# Altium footprint library ERA-2AEB6042X.PcbLib: 3 footprints
Each footprint in its own frame and in the unit in brackets; x right, y up, seen from the top. Pads: shape width x height; smd on the part's side, far side on the other; paste and mask are expansions set on the pad; w line width, h text height; cw(c..) or ccw(c..) is an arc to the next point about the centre after c.
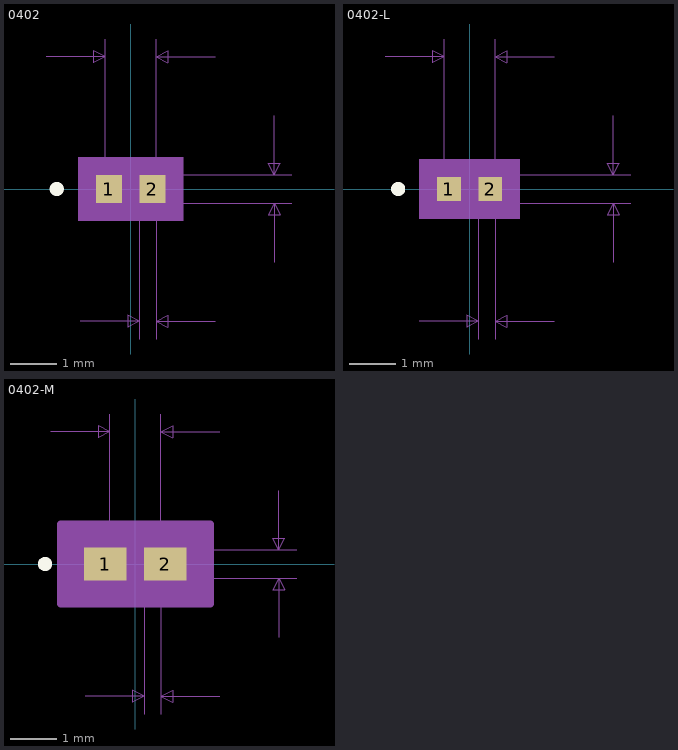
[diagram p0: the footprints below, top view; thin cyan lines are the x and y axes]

## 0402 [mil]
pads (2):
  rect 22x24 smd: 1(-18.5,0) 2(18.5,0)
Top Overlay:
  circle w6: c-62.5,0 r3
Mechanical 5:
  region: 44.5,-27 -44.5,-27 -44.5,27 44.5,27
Mechanical 7:
  lines w1: -71.5,112 -21.5,112 ; -42.5,-112 7.5,-112 ; -21.5,0 -21.5,127 ; 0,-12 136.5,-12 ; 0,12 136.5,12 ; 7.5,-127 7.5,0 ; 21.5,-127 21.5,0 21.5,127 ; 71.5,-112 21.5,-112 ; 71.5,112 21.5,112 ; 121.5,-62 121.5,-12 ; 121.5,62 121.5,12 ; -21.5,112 -31.5,117 -31.5,107 -21.5,112 ; 7.5,-112 -2.5,-107 -2.5,-117 7.5,-112 ; 21.5,-112 31.5,-107 31.5,-117 21.5,-112 ; 21.5,112 31.5,117 31.5,107 21.5,112 ; 121.5,-12 116.5,-22 126.5,-22 121.5,-12 ; 121.5,12 116.5,22 126.5,22 121.5,12
  text "Default Padstyle: RX22Y24D0T" at -350,-282 h50
  text "Alternate 1 Padstyle: OX60Y90D30P" at -412.5,-382 h50
  text "Alternate 2 Padstyle: OX90Y60D30P" at -412.5,-482 h50
  text "0.024in/0.61mm" at 141.5,-12.5 h25
  text "0.043in/1.092mm" at -93.75,132 h25
  text "0.014in/0.356mm" at -79.25,-157 h25
Mechanical 13:
  circle w0: c-13.5,0 r3
  lines w1: -21.5,-12 -21.5,12 ; -21.5,-12 -7.5,-12 -7.5,12 -21.5,12 ; -21.5,-12 21.5,-12 ; -21.5,-12 -21.5,12 ; -21.5,12 21.5,12 ; 21.5,-12 7.5,-12 7.5,12 21.5,12 ; 21.5,-12 21.5,12 ; 21.5,-12 21.5,12
Mechanical 15:
  region: 39.5,-22 -39.5,-22 -39.5,22 39.5,22
  lines w6: -39.5,-22 -39.5,22 39.5,22 39.5,-22 -39.5,-22
3D body: height 10, standoff 0, extent 0,0 10,10

## 0402-L [mil]
pads (2):
  rect 20x20 smd paste+0 mask+0: 1(-17.5,0) 2(17.5,0)
Top Overlay:
  circle w6: c-60.5,0 r3
Mechanical 5:
  region: 42.5,-25 -42.5,-25 -42.5,25 42.5,25
Mechanical 7:
  lines w1: -71.5,112 -21.5,112 ; -42.5,-112 7.5,-112 ; -21.5,0 -21.5,127 ; 0,-12 136.5,-12 ; 0,12 136.5,12 ; 7.5,-127 7.5,0 ; 21.5,-127 21.5,0 21.5,127 ; 71.5,-112 21.5,-112 ; 71.5,112 21.5,112 ; 121.5,-62 121.5,-12 ; 121.5,62 121.5,12 ; -21.5,112 -31.5,117 -31.5,107 -21.5,112 ; 7.5,-112 -2.5,-107 -2.5,-117 7.5,-112 ; 21.5,-112 31.5,-107 31.5,-117 21.5,-112 ; 21.5,112 31.5,117 31.5,107 21.5,112 ; 121.5,-12 116.5,-22 126.5,-22 121.5,-12 ; 121.5,12 116.5,22 126.5,22 121.5,12
  text "Default Padstyle: RX20Y20D0T" at -350,-280 h50
  text "Alternate 1 Padstyle: OX60Y90D30P" at -412.5,-380 h50
  text "Alternate 2 Padstyle: OX90Y60D30P" at -412.5,-480 h50
  text "0.024in/0.61mm" at 141.5,-12.5 h25
  text "0.043in/1.092mm" at -93.75,132 h25
  text "0.014in/0.356mm" at -79.25,-157 h25
Mechanical 13:
  circle w0: c-12.5,0 r3
  lines w1: -21.5,-12 -21.5,12 ; -21.5,-12 -7.5,-12 -7.5,12 -21.5,12 ; -21.5,-12 21.5,-12 ; -21.5,-12 -21.5,12 ; -21.5,12 21.5,12 ; 21.5,-12 7.5,-12 7.5,12 21.5,12 ; 21.5,-12 21.5,12 ; 21.5,-12 21.5,12
Mechanical 15:
  region: 31.5,-14 -31.5,-14 -31.5,14 31.5,14
  lines w6: -31.5,-14 -31.5,14 31.5,14 31.5,-14 -31.5,-14
3D body: height 10, standoff 0, extent 0,0 10,10

## 0402-M [mil]
pads (2):
  rect 36x28 smd paste+0 mask+0: 1(-25.5,0) 2(25.5,0)
Top Overlay:
  circle w6: c-76.5,0 r3
Mechanical 5:
  region: 58.5,-29 -58.5,-29 -58.5,29 58.5,29
Mechanical 7:
  lines w1: -71.5,112 -21.5,112 ; -42.5,-112 7.5,-112 ; -21.5,0 -21.5,127 ; 0,-12 136.5,-12 ; 0,12 136.5,12 ; 7.5,-127 7.5,0 ; 21.5,-127 21.5,0 21.5,127 ; 71.5,-112 21.5,-112 ; 71.5,112 21.5,112 ; 121.5,-62 121.5,-12 ; 121.5,62 121.5,12 ; -21.5,112 -31.5,117 -31.5,107 -21.5,112 ; 7.5,-112 -2.5,-107 -2.5,-117 7.5,-112 ; 21.5,-112 31.5,-107 31.5,-117 21.5,-112 ; 21.5,112 31.5,117 31.5,107 21.5,112 ; 121.5,-12 116.5,-22 126.5,-22 121.5,-12 ; 121.5,12 116.5,22 126.5,22 121.5,12
  text "Default Padstyle: RX36Y28D0T" at -350,-284 h50
  text "Alternate 1 Padstyle: OX60Y90D30P" at -412.5,-384 h50
  text "Alternate 2 Padstyle: OX90Y60D30P" at -412.5,-484 h50
  text "0.024in/0.61mm" at 141.5,-12.5 h25
  text "0.043in/1.092mm" at -93.75,132 h25
  text "0.014in/0.356mm" at -79.25,-157 h25
Mechanical 13:
  circle w0: c-20.5,0 r3
  lines w1: -21.5,-12 -21.5,12 ; -21.5,-12 -7.5,-12 -7.5,12 -21.5,12 ; -21.5,-12 21.5,-12 ; -21.5,-12 -21.5,12 ; -21.5,12 21.5,12 ; 21.5,-12 7.5,-12 7.5,12 21.5,12 ; 21.5,-12 21.5,12 ; 21.5,-12 21.5,12
Mechanical 15:
  region: 63.5,-34 -63.5,-34 -63.5,34 63.5,34
  lines w6: -63.5,-34 -63.5,34 63.5,34 63.5,-34 -63.5,-34
3D body: height 10, standoff 0, extent 0,0 10,10